# Altium footprint library SM_L_11MMx10MMx4MM.PcbLib: 1 footprints
Each footprint in its own frame and in the unit in brackets; x right, y up, seen from the top. Pads: shape width x height; smd on the part's side, far side on the other; paste and mask are expansions set on the pad; w line width, h text height; cw(c..) or ccw(c..) is an arc to the next point about the centre after c.
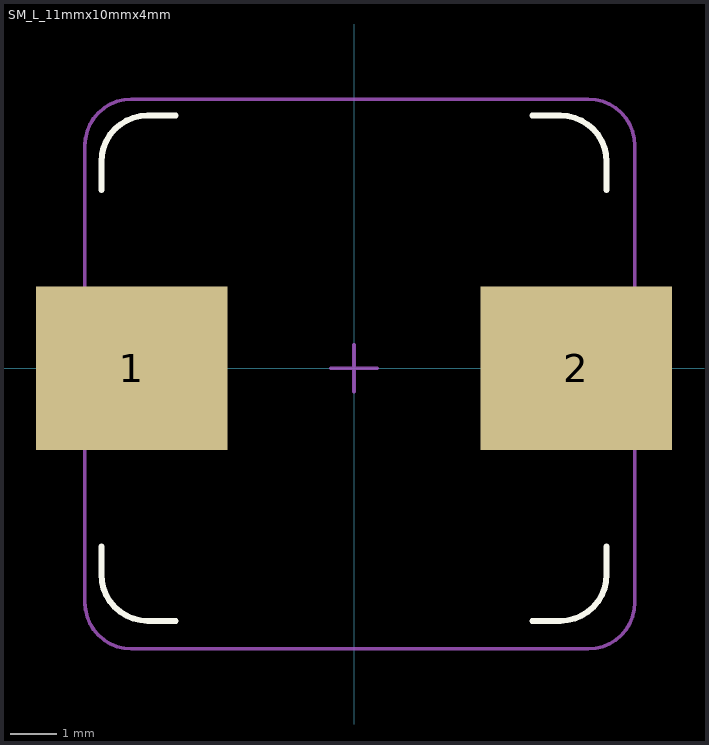
[diagram p0: the footprint, top view; thin cyan lines are the x and y axes]

## SM_L_11mmx10mmx4mm [mm]
pads (2):
  rect 4.1x3.5 smd mask+0.076: 1(-4.75,0) 2(4.75,0)
Top Overlay:
  lines w0.127: -5.4,-3.81 -5.4,-4.409 ccw(c-4.409,-4.409) -4.409,-5.4 -3.81,-5.4 ; -5.4,3.81 -5.4,4.409 cw(c-4.409,4.409) -4.409,5.4 -3.81,5.4 ; 3.81,-5.4 4.409,-5.4 ccw(c4.409,-4.409) 5.4,-4.409 5.4,-3.81 ; 3.81,5.4 4.409,5.4 cw(c4.409,4.409) 5.4,4.409 5.4,3.81
Mechanical 15:
  lines w0.076: -0.5,0 0.5,0 ; 0,-0.5 0,0.5 ; -5.75,-5.009 ccw(c-4.759,-5.009) -4.759,-6 5.009,-6 ccw(c5.009,-5.009) 6,-5.009 6,4.759 ccw(c5.009,4.759) 5.009,5.75 -4.759,5.75 ccw(c-4.759,4.759) -5.75,4.759 -5.75,2.5 -5.75,-5.009
3D body: height 2, standoff 0, extent 5.05,-1.7 5.75,1.7
3D body: height 4, standoff 0, extent -5.15,-5.15 5.15,5.15
3D body: height 2, standoff 0, extent -5.75,-1.7 -5.05,1.7